# EAGLE library part TXM-900-HP3 (library My_Parts)
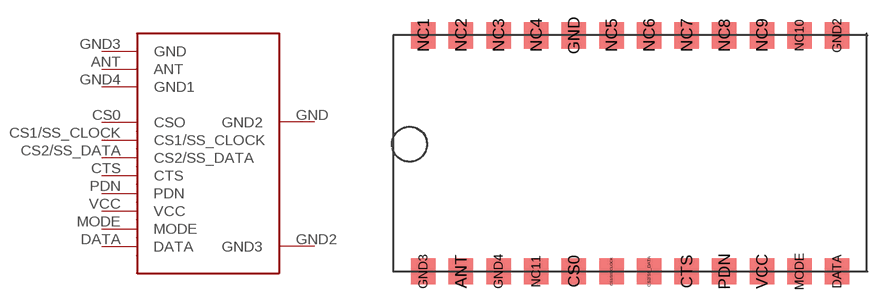
[diagram p0: symbol with the pads of SMD; footprint SMD]

Designator prefix -

## TXM-900-HP3  [SMD]
ANT  ANT
CS0  CSO
CS1/SS_CLOCK  CS1/SS_CLOCK
CS2/SS_DATA  CS2/SS_DATA
CTS  CTS
DATA  DATA
GND  GND2
GND2  GND3
GND3  GND
GND4  GND1
MODE  MODE
PDN  PDN
VCC  VCC

## Footprint SMD (pad centres in mm)
smd 1.651 x 1.778: ANT -11.43,-7.976; CS0 -3.81,-7.976; CS1/SS_CLOCK -1.27,-7.976; CS2/SS_DATA 1.27,-7.976; CTS 3.81,-7.976; DATA 13.97,-7.976; GND -3.81,7.976; GND2 13.97,7.976; GND3 -13.97,-7.976; GND4 -8.89,-7.976; MODE 11.43,-7.976; NC1 -13.97,7.976; NC2 -11.43,7.976; NC3 -8.89,7.976; NC4 -6.35,7.976; NC5 -1.27,7.976; NC6 1.27,7.976; NC7 3.81,7.976; NC8 6.35,7.976; NC9 8.89,7.976; NC10 11.43,7.976; NC11 -6.35,-7.976; PDN 6.35,-7.976; VCC 8.89,-7.976